# Altium footprint library O_JonF_DaveL.PcbLib: 331 footprints (part 1 of 21)
Each footprint in its own frame and in the unit in brackets; x right, y up, seen from the top. Pads: shape width x height; smd on the part's side, far side on the other; paste and mask are expansions set on the pad; w line width, h text height; cw(c..) or ccw(c..) is an arc to the next point about the centre after c.
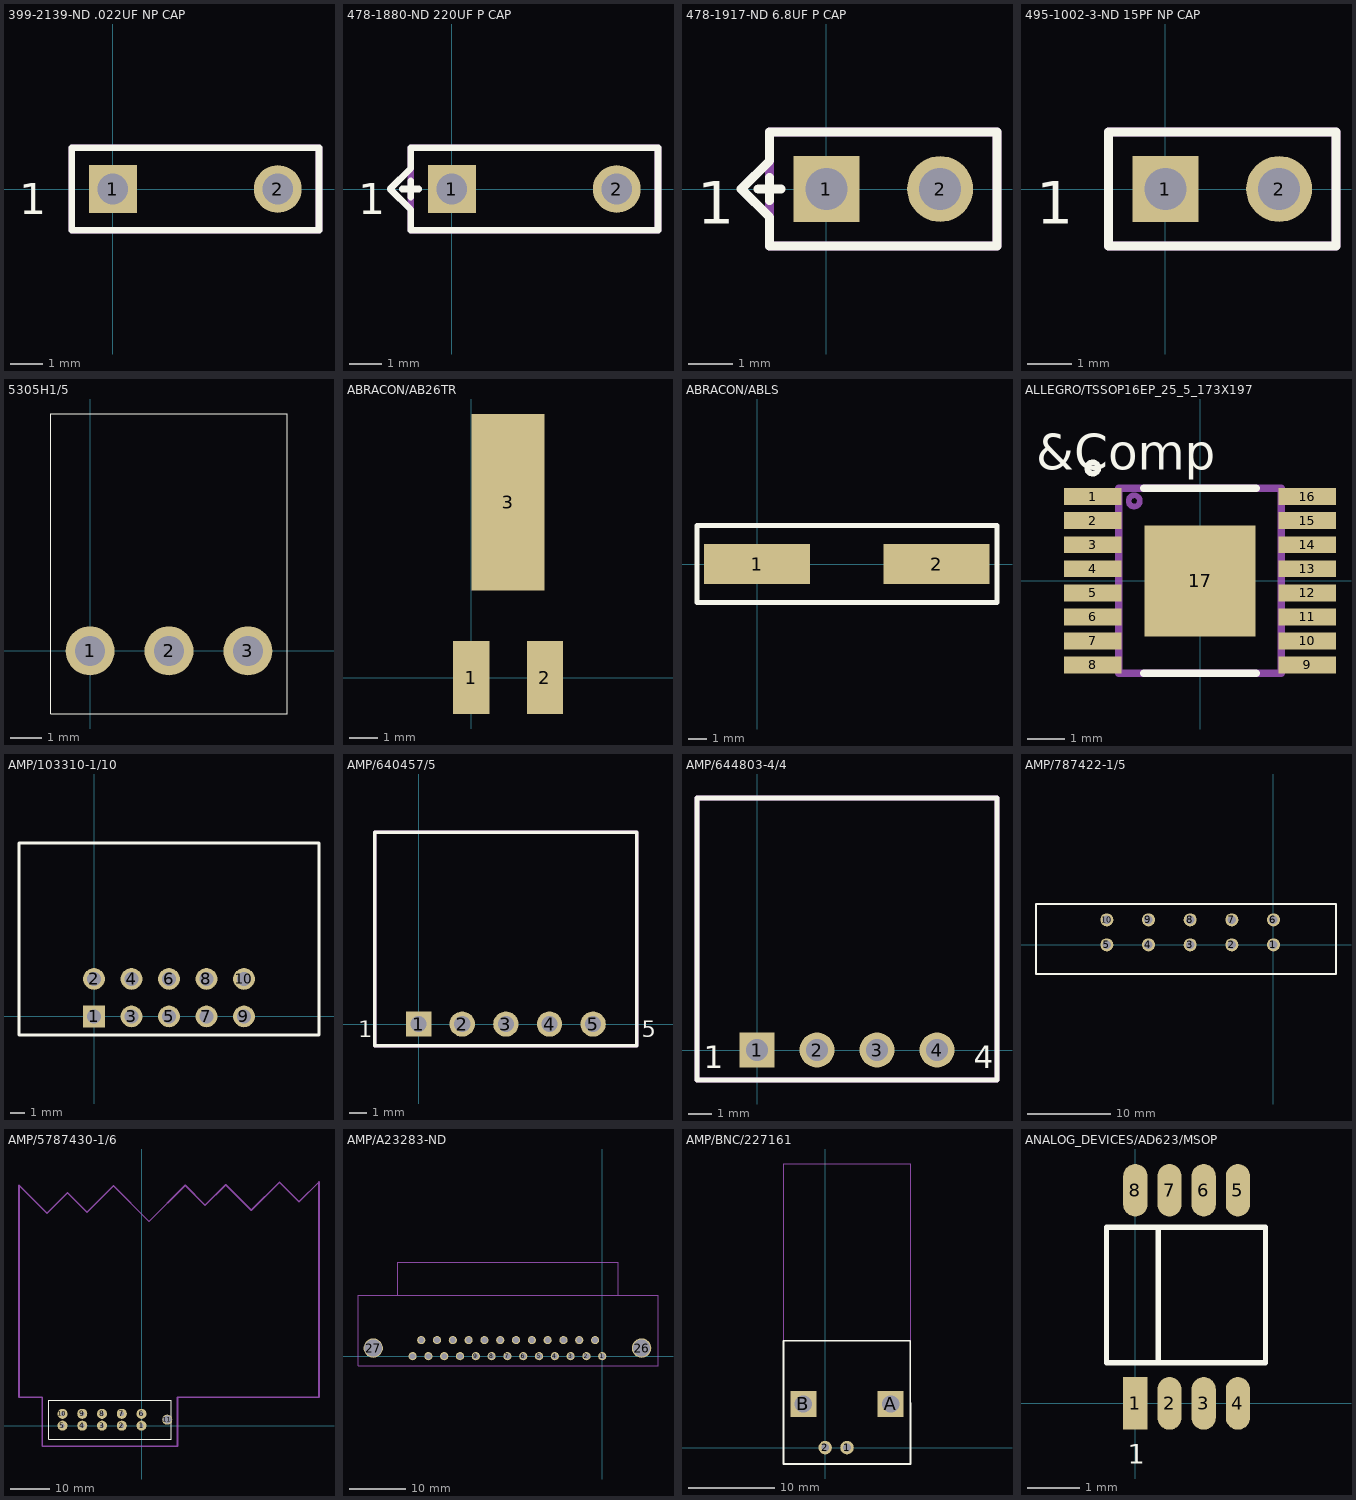
[diagram p0: the footprints below, top view; thin cyan lines are the x and y axes]

## 399-2139-ND .022UF NP CAP [mil]
pads (2):
  rect 58x58 hole 37: 1(0,0)
  round 58 hole 37: 2(200,0)
Top Overlay:
  lines w8: -50,-50 250,-50 250,50 -50,50 -50,-50
  text "1" at -113.88,-30.63 h37.5
Mechanical 1:
  lines w8: -50,-50 250,-50 250,50 -50,50 -50,-50
  text "1" at -113.88,-30.63 h37.5

## 478-1880-ND 220UF P CAP [mil]
pads (2):
  rect 58x58 hole 37: 1(0,0)
  round 58 hole 37: 2(200,0)
Top Overlay:
  lines w8: -60,0 -40,0 ; -50,-10 -50,10 ; -75,0 -50,25 -50,50 250,50 250,-50 -50,-50 -50,-25 -75,0
  text ".Designator" at -44.45,-180.62 h37.5
  text "1" at -113.88,-30.63 h37.5
Mechanical 1:
  lines w8: -50,-50 -50,50 250,50 250,-50 -50,-50
  text ".Designator" at -44.45,-180.62 h37.5
  text "1" at -113.88,-30.63 h37.5
  text ".Pattern" at -49.98,-218.38 h22.5
  text ".Comment" at -33.33,-130.63 h37.5

## 478-1917-ND 6.8UF P CAP [mil]
pads (2):
  rect 58x58 hole 37: 1(0,0)
  round 58 hole 37: 2(100,0)
Top Overlay:
  lines w8: -60,0 -40,0 ; -50,-10 -50,10 ; -75,0 -50,-25 -50,-50 150,-50 150,50 -50,50 -50,25 -75,0
  text "1" at -113.88,-30.63 h37.5
  text ".Designator" at 180.55,-30.62 h37.5
Mechanical 1:
  lines w8: -50,-50 -50,50 150,50 150,-50 -50,-50
  text ".Designator" at -44.45,119.38 h37.5
  text "1" at -113.88,-30.63 h37.5
  text ".Comment" at -58.33,69.37 h37.5

## 495-1002-3-ND 15PF NP CAP [mil]
pads (2):
  rect 58x58 hole 37: 1(0,0)
  round 58 hole 37: 2(100,0)
Top Overlay:
  lines w8: -50,-50 150,-50 150,50 -50,50 -50,-50
  text "1" at -113.88,-30.63 h37.5
  text ".Designator" at -44.45,-180.62 h37.5
Mechanical 1:
  lines w8: -50,-50 150,-50 150,50 -50,50 -50,-50
  text "1" at -113.88,-30.63 h37.5
  text ".Pattern" at -49.98,-218.38 h22.5
  text ".Comment" at -33.33,-130.63 h37.5
  text ".Designator" at -44.45,-180.62 h37.5

## 5305H1/5 [mil]
pads (3):
  round 62 hole 38: 1(0,0) 2(100,0) 3(200,0)
Top Overlay:
  lines w1: -50,-80 100,-80 250,-80 250,300 -50,300 -50,-80
  text ".Designator" at -50,662.5 h56.25
Mechanical 1:
  text ".Designator" at -50,662.5 h56.25
  text ".Comment" at -50,550 h56.25
  text ".Pattern" at -50,325 h56.25

## ABRACON/AB26TR [mil]
pads (3):
  rect 49x99 smd: 1(0,0) 2(100,0)
  rect 99x240 smd: 3(50,238.5)
Top Overlay:
  text ".Designator" at -46.5,361 h37.5
Mechanical 1:
  text ".Designator" at -47.5,360.5 h37.5
  text ".Comment" at 110.5,238.5 h37.5
  text ".Pattern" at -176.5,-124.5 h37.5

## ABRACON/ABLS [mil]
pads (2):
  rect 220x83 smd: 1(0,0) 2(374,0)
Top Overlay:
  lines w10: -125,-80 -125,80 500,80 500,-80 -125,-80
  text ".Designator" at -125,-187.5 h56.25
Mechanical 1:
  text ".Pattern" at -125,-525 h56.25
  text ".Comment" at -125,-300 h56.25
  text ".Designator" at -125,-187.5 h56.25

## ALLEGRO/TSSOP16EP_25_5_173X197 [mil]
pads (17):
  rect 61x18 smd: 1(-114.17,89.57) 2(-114.17,64) 3(-114.17,38.38) 4(-114.17,12.8) 5(-114.17,-12.8) 6(-114.17,-38.38) 7(-114.17,-63.98) 8(-114.17,-89.57) 9(114.17,-89.57) 10(114.17,-63.98) 11(114.17,-38.38) 12(114.17,-12.8) 13(114.17,12.8) 14(114.17,38.38) 15(114.17,64) 16(114.17,89.57)
  rect 118x118 smd: 17(0,0)
Top Overlay:
  circle w6: c-114.17,120 r6
  lines w8: -60,-98.43 60,-98.43 ; -60,98.43 60,98.43
  text ".Pattern" at 0,0 h37.5
  text "&Comp" at -174.5,118.33 h37.5
Top Paste:
  drawing of 5 lines, arcs and shapes, not listed
Mechanical 1:
  circle w6: c-70,85 r6
  lines w8: -86.62,-98.43 86.62,-98.43 86.62,98.43 -86.62,98.43 -86.62,-98.43
  text "&Comp" at -44.5,-41.67 h37.5

## AMP/103310-1/10 [mil]
pads (10):
  rect 58x58 hole 37: 1(0,0)
  round 58 hole 37: 2(0,100) 3(100,0) 4(100,100) 5(200,0) 6(200,100) 7(300,0) 8(300,100) 9(400,0) 10(400,100)
Top Overlay:
  lines w8: -200,-50 -200,463 600,463 600,-50 -200,-50
Mechanical 1:
  lines w1: -200,-50 -200,463 600,463 600,-50 -200,-50
  text "<--Edge of Board-->" at 25,425 h15
  text ".Comment" at -34.33,25.38 h37.5

## AMP/640457/5 [mil]
pads (5):
  rect 58x58 hole 37: 1(0,0)
  round 58 hole 37: 2(100,0) 3(200,0) 4(300,0) 5(400,0)
Top Overlay:
  lines w8: -100,-50 -100,440 500,440 500,-50 -100,-50
  text "5" at 511.12,-30.63 h37.5
  text "1" at -138.88,-30.63 h37.5
  text ".Designator" at -44.45,-180.62 h37.5
Mechanical 1:
  lines w8: -100,-50 -100,440 500,440 500,-50 -100,-50
  text "4" at 361.12,-30.63 h37.5
  text "1" at -88.88,-30.63 h37.5
  text ".Pattern" at -74.98,56.62 h22.5
  text ".Comment" at -58.33,-130.63 h37.5
  text ".Designator" at -44.45,-180.62 h37.5

## AMP/644803-4/4 [mil]
pads (4):
  rect 58x58 hole 37: 1(0,0)
  round 58 hole 37: 2(100,0) 3(200,0) 4(300,0)
Top Overlay:
  lines w8: -100,-50 400,-50 400,420 -100,420 -100,-50
  text ".Designator" at -44.45,-180.62 h37.5
  text "1" at -88.88,-30.63 h37.5
  text "4" at 361.12,-30.63 h37.5
Mechanical 1:
  lines w8: -100,-50 400,-50 400,420 -100,420 -100,-50
  text ".Designator" at -44.45,-180.62 h37.5
  text ".Comment" at -58.33,-130.63 h37.5
  text ".Pattern" at -74.98,56.62 h22.5
  text "1" at -88.88,-30.63 h37.5
  text "4" at 361.12,-30.63 h37.5

## AMP/787422-1/5 [mm]
pads (10):
  round 1.575 hole 1.02: 1(0,0) 2(-5,0) 3(-10,0) 4(-15,0) 5(-20,0) 6(0,3) 7(-5,3) 8(-10,3) 9(-15,3) 10(-20,3)
Top Overlay:
  lines w0.2: -28.5,-3.5 7.5,-3.5 7.5,4.9 -28.5,4.9 -28.5,-3.5
  text ".Designator" at 2.612,5.169 h0.95
Mechanical 1:
  text ".Pattern" at 1.799,-8.763 h0.95
  text "This edge to edge of PCB" at -22.148,-3.219 h0.95
  text "in part (1=6,2=7,3=8,etc)" at -24.828,-7.278 h0.95
  text "WARNING! rows are shorted" at -25.225,-5.817 h0.95
  text ".Designator" at 2.612,5.169 h0.95
  text ".Comment" at 1.799,-7.289 h0.95

## AMP/5787430-1/6 [mm]
pads (11):
  round 2.54 / inner round 1.575 / far side round 2.54 hole 1.097: 1(0,0) 2(-5,0) 3(-10,0) 4(-15,0) 5(-20,0) 6(0,3) 7(-5,3) 8(-10,3) 9(-15,3) 10(-20,3)
  round 2.54 hole 2.032: 11(6.5,1.5)
Top Overlay:
  lines w0.2: -23.5,-3.4 -23.5,6.4 7.5,6.4 7.5,-3.4 -23.5,-3.4
  text ".Designator" at 2.072,4.709 h0.95
Mechanical 1:
  lines w0.4: -31,7.16 -25.07,7.16 -25.07,-5.17 9.09,-5.17 9.09,2.13 9.09,7.16 44.89,7.16 44.89,61.65 39.86,56.62 34.89,61.59 27.76,54.46 21.27,60.95 16.08,55.76 11.05,60.79 1.91,51.65 -7.12,60.68 -13.82,53.98 -18.74,58.9 -23.93,53.71 -31,60.78 -31,7.16
  text ".Comment" at -23.281,12.281 h0.95
  text ".Pattern" at -23.281,10.807 h0.95
  text "Battery This Side (otl not to scale)" at -29.66,15.63 h1.43
  text "in part (1=6,2=7,3=8,etc)" at -23.218,7.102 h0.95
  text "WARNING! rows are shorted" at -23.275,8.883 h0.95
  text ".Designator" at -30.368,7.869 h0.95

## AMP/A23283-ND [mil]
pads (27):
  round 57 hole 40: 1(0,0) 2(-110,0) 3(-220,0) 4(-330,0) 5(-440,0) 6(-550,0) 7(-660,0) 8(-770,0) 9(-880,0) 10(-990,0) 11(-1100,0) 12(-1210,0) 13(-1320,0) 14(-50,112) 15(-160,112) 16(-270,112) 17(-380,112) 18(-490,112) 19(-600,112) 20(-710,112) 21(-820,112) 22(-930,112) 23(-1040,112) 24(-1150,112) 25(-1260,112)
  round 135 hole 120: 26(274,56) 27(-1594,56)
Top Overlay:
  text ".Designator" at -1674,-173.5 h56.25
Mechanical 1:
  lines w1: -1700,-65 -1700,425 388,425 388,-65 -1700,-65 ; -1424,425 -1424,652 112,652 112,425 -1424,425
  text ".Designator" at -1675,-176.5 h56.25
  text ".Pattern" at -135,-181 h56.25

## AMP/BNC/227161 [mil]
pads (4):
  round 62 hole 36: 1(100,0) 2(0,0)
  rect 120x120 / inner round 97 / far side rect 120x120 hole 80: A(300,200) B(-100,200)
Top Overlay:
  lines w8: -190.5,-75 -190.5,490 390.3,490 390.5,-75 -190.5,-75
  text ".Designator" at 0,337.5 h56.25
Mechanical 1:
  lines w1: -190.5,-75 390.5,-75 390,1300 -190.5,1300 -190.5,-75
  text ".Pattern" at 0,0 h56.25
  text ".Comment" at 0,225 h56.25
  text ".Designator" at 0,337.5 h56.25

## ANALOG_DEVICES/AD623/MSOP [mm]
pads (8):
  rect 0.46x1 smd: 1(0,0)
  oval 0.46x1 smd: 2(0.65,0) 3(1.3,0) 4(1.95,0) 5(1.95,4.05) 6(1.3,4.05) 7(0.65,4.05) 8(0,4.05)
Top Overlay:
  lines w0.1: 0.435,0.782 0.435,3.344 ; -0.55,0.771 2.476,0.771 2.476,3.35 -0.55,3.35 -0.55,0.771
  text "." at -0.125,1.024 h0.38
  text "1" at -0.14,-1.151 h0.38
  text ".Designator" at 4.716,-1.583 h1.5
Mechanical 1:
  text ".Pattern" at -0.625,-3.45 h1.5
  text ".Designator" at 4.691,-1.583 h1.5
  text ".Comment" at -0.853,6.461 h1.5